# EAGLE library part LM386 (library gm-ics)
LM386 - Low Voltage Audio Power Amplifier
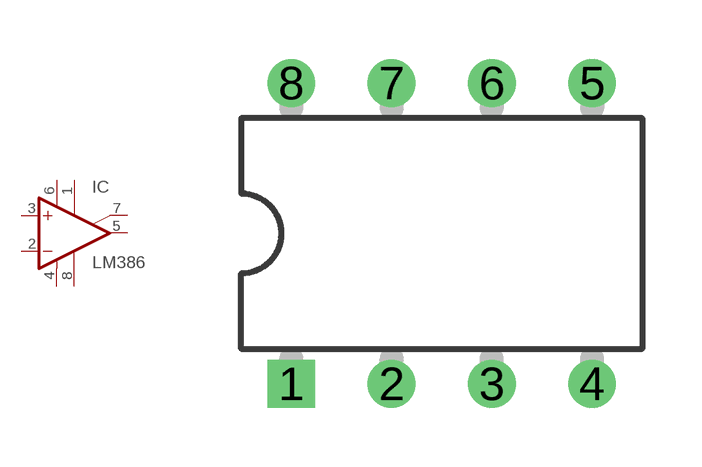
[diagram p27: symbol with the pads of DIL08; footprint DIL08]

Designator prefix IC

## LM386  [DIL08]
1  GAIN1  pas
2  -IN  in
3  +IN  in
4  V-  pwr
5  OUT  out
6  V+  pwr
7  BYPASS  pas
8  GAIN2  pas

## Footprint DIL08 (pad centres in mm)
Dual In Line Package
drill 0.7 square: 1 -3.81,-3.81
drill 0.7: 2 -1.27,-3.81; 3 1.27,-3.81; 4 3.81,-3.81; 5 3.81,3.81; 6 1.27,3.81; 7 -1.27,3.81; 8 -3.81,3.81